# Altium footprint library PcbLib2021-2022.PcbLib: 46 footprints (part 2 of 3)
Each footprint in its own frame and in the unit in brackets; x right, y up, seen from the top. Pads: shape width x height; smd on the part's side, far side on the other; paste and mask are expansions set on the pad; w line width, h text height; cw(c..) or ccw(c..) is an arc to the next point about the centre after c.
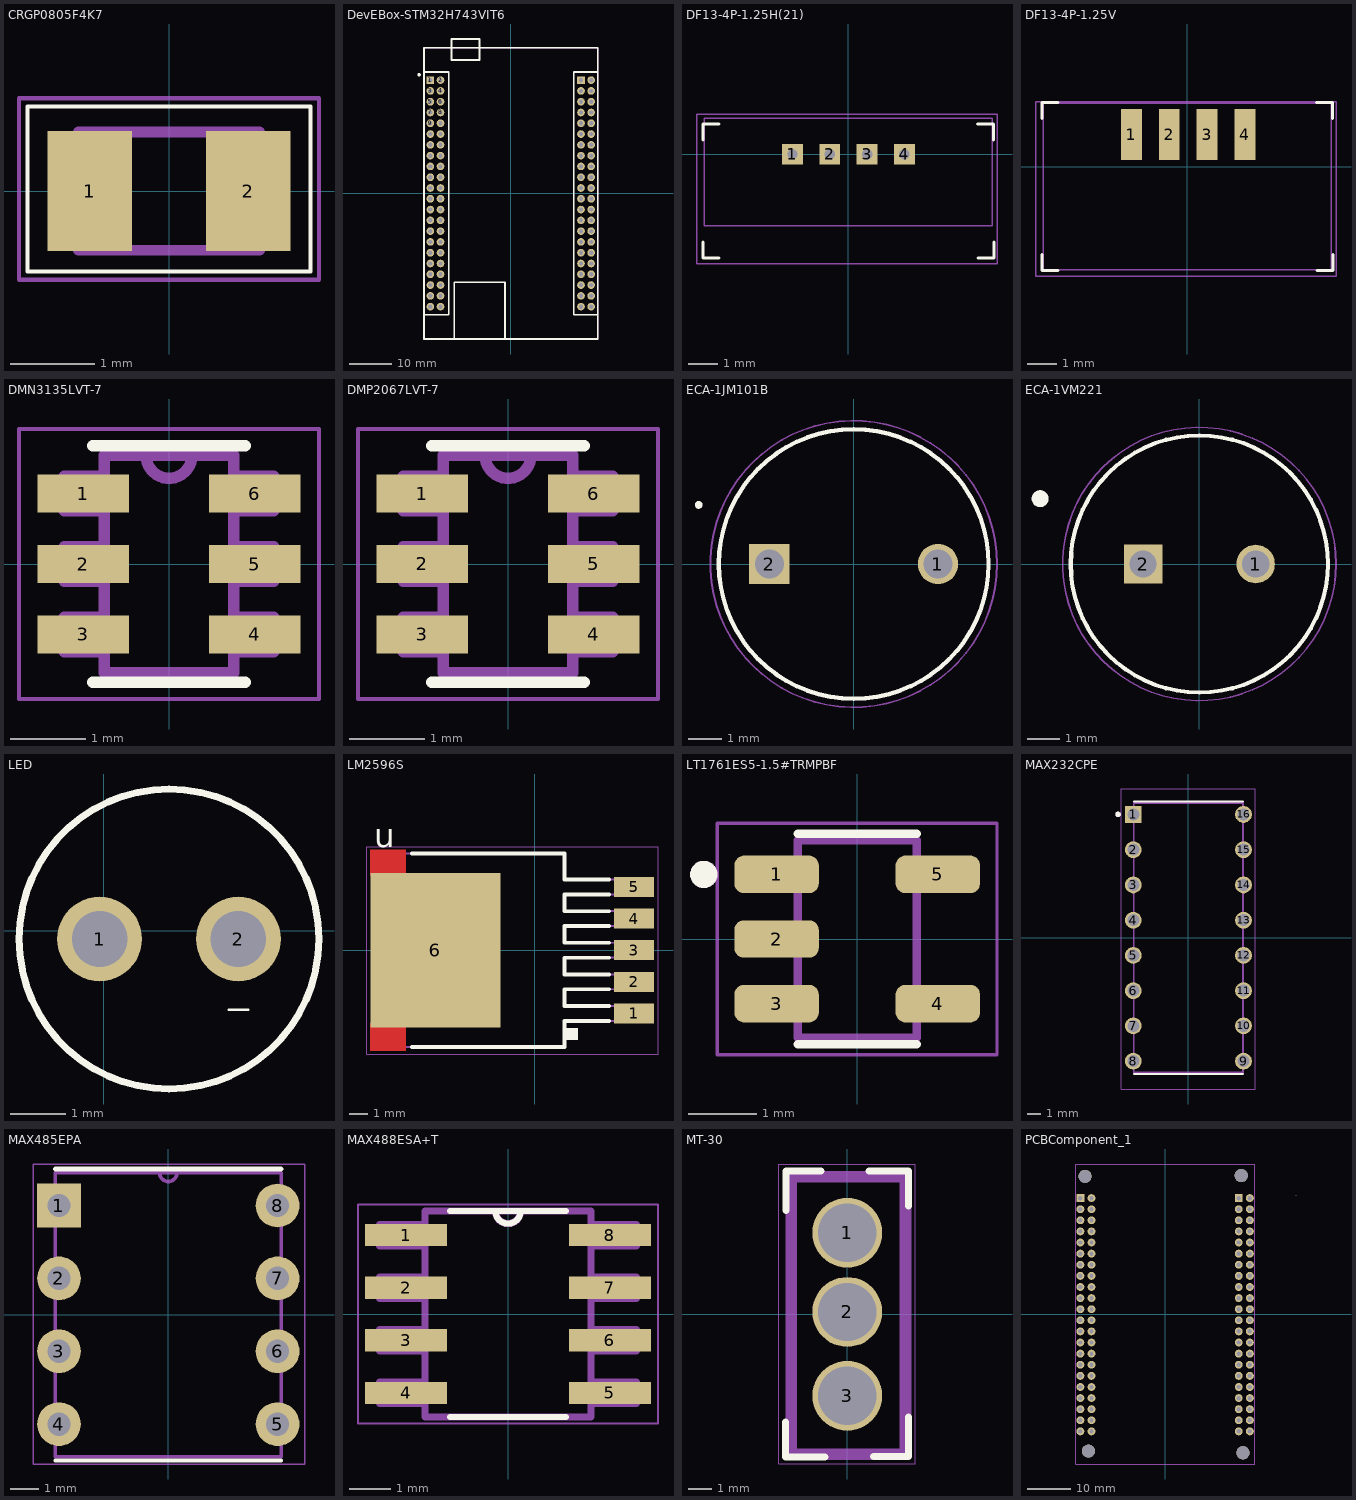
[diagram p1: the footprints below, top view; thin cyan lines are the x and y axes]

## CRGP0805F4K7 [mm]
pads (2):
  rect 1x1.42 smd: 1(-0.935,0) 2(0.935,0)
Top Overlay:
  lines w0.05: -1.675,-0.95 -1.675,1 1.675,1 1.675,-0.95 -1.675,-0.95
M13_3DBody:
  lines w0.127: -1.07,-0.7 -1.07,0.7 1.07,0.7 1.07,-0.7 -1.07,-0.7
M14_TopAssembly:
  text "'.Designator'" at -1.05,-0.514 h1.52
M15_TopCoutyard:
  lines w0.05: -1.775,-1.05 -1.775,1.1 1.775,1.1 1.775,-1.05 -1.775,-1.05
3D body "CRGP0805F4K7.STEP": height 0.65, standoff 0, extent -1,-0.625 1,0.625

## DevEBox-STM32H743VIT6 [mm]
pads (88):
  rect 1.8x1.8 hole 1: 1(-18.96,26.67) 45(16.51,26.67)
  round 1.8 hole 1: 2(-16.56,26.67) 3(-18.96,24.13) 4(-16.56,24.13) 5(-18.96,21.59) 6(-16.56,21.59) 7(-18.96,19.05) 8(-16.56,19.05) 9(-18.96,16.51) 10(-16.56,16.51) 11(-18.96,13.97) 12(-16.56,13.97) 13(-18.96,11.43) 14(-16.56,11.43) 15(-18.96,8.89) 16(-16.56,8.89) 17(-18.96,6.35) 18(-16.56,6.35) 19(-18.96,3.81) 20(-16.56,3.81) 21(-18.96,1.27) 22(-16.56,1.27) 23(-18.96,-1.27) 24(-16.56,-1.27) 25(-18.96,-3.81) 26(-16.56,-3.81) 27(-18.96,-6.35) 28(-16.56,-6.35) 29(-18.96,-8.89) 30(-16.56,-8.89) 31(-18.96,-11.43) 32(-16.56,-11.43) 33(-18.96,-13.97) 34(-16.56,-13.97) 35(-18.96,-16.51) 36(-16.56,-16.51) 37(-18.96,-19.05) 38(-16.56,-19.05) 39(-18.96,-21.59) 40(-16.56,-21.59) 41(-18.96,-24.13) 42(-16.56,-24.13) 43(-18.96,-26.67) 44(-16.56,-26.67) 46(18.91,26.67) 47(16.51,24.13) 48(18.91,24.13) 49(16.51,21.59) 50(18.91,21.59) 51(16.51,19.05) 52(18.91,19.05) 53(16.51,16.51) 54(18.91,16.51) 55(16.51,13.97) 56(18.91,13.97) 57(16.51,11.43) 58(18.91,11.43) 59(16.51,8.89) 60(18.91,8.89) 61(16.51,6.35) 62(18.91,6.35) 63(16.51,3.81) 64(18.91,3.81) 65(16.51,1.27) 66(18.91,1.27) 67(16.51,-1.27) 68(18.91,-1.27) 69(16.51,-3.81) 70(18.91,-3.81) 71(16.51,-6.35) 72(18.91,-6.35) 73(16.51,-8.89) 74(18.91,-8.89) 75(16.51,-11.43) 76(18.91,-11.43) 77(16.51,-13.97) 78(18.91,-13.97) 79(16.51,-16.51) 80(18.91,-16.51) 81(16.51,-19.05) 82(18.91,-19.05) 83(16.51,-21.59) 84(18.91,-21.59) 85(16.51,-24.13) 86(18.91,-24.13) 87(16.51,-26.67) 88(18.91,-26.67)
Top Overlay:
  circle w0.4: c-21.59,27.94 r0.2
  lines w0.4: -20.32,-28.6 -14.605,-28.6 -14.605,28.575 -20.32,28.575 ; -13.333,-34.29 -1.395,-34.29 ; -13.333,-34.266 -13.333,-20.931 -1.395,-20.931 -1.395,-34.266 ; 20.35,28.575 14.787,28.575 14.787,-28.6 20.375,-28.6 ; -20.445,-34.29 -20.445,34.29 20.445,34.29 20.445,-34.29 -20.445,-34.29 ; -13.968,31.403 -7.364,31.403 -7.364,36.356 -13.968,36.356 -13.968,31.403
M14_TopAssembly:
  lines w0.4: -20.445,-34.29 20.445,-34.29 20.445,34.29 -20.445,34.29 -20.445,-34.29
  text "'.Designator'" at -13.26,-6.771 h20

## DF13-4P-1.25H(21) [mm]
pads (4):
  rect 0.7x0.7 hole 0.35 square: 1(-1.875,0) 2(-0.625,0) 3(0.625,0) 4(1.875,0)
Top Overlay:
  lines w0.1: -4.877,-2.946 -4.877,-3.48 -4.343,-3.48 ; -4.877,0.483 -4.877,1.016 -4.343,1.016 ; 4.331,1.016 4.864,1.016 4.864,0.483 ; 4.343,-3.48 4.877,-3.48 4.877,-2.946
M14_TopAssembly:
  lines w0.05: -4.825,-2.4 -4.825,1.2 4.825,1.2 4.825,-2.4 -4.825,-2.4
  text "'.Designator'" at -2.108,-1.062 h3
M15_TopCoutyard:
  lines w0.05: -5.075,-3.675 -5.075,1.346 4.978,1.346 4.978,-3.675 -5.075,-3.675
3D body "DF13-4P-1.25H.STEP": height 5.02, standoff -1.48, extent -4.825,-3.425 4.825,0.975

## DF13-4P-1.25V [mm]
pads (4):
  rect 0.7x1.7 smd: 1(-1.875,1.075) 2(-0.608,1.075) 3(0.658,1.075) 4(1.925,1.075)
Top Overlay:
  lines w0.1: -4.877,-2.946 -4.877,-3.48 -4.343,-3.48 ; -4.877,1.608 -4.877,2.141 -4.343,2.141 ; 4.331,2.141 4.864,2.141 4.864,1.608 ; 4.343,-3.48 4.877,-3.48 4.877,-2.946
M14_TopAssembly:
  lines w0.05: -4.825,-3.45 -4.825,2.125 4.825,2.125 4.825,-3.45 -4.825,-3.45
  text "'.Designator'" at -2.108,-1.062 h3
M15_TopCoutyard:
  lines w0.05: -5.075,-3.675 -5.075,2.175 4.978,2.175 4.978,-3.675 -5.075,-3.675
3D body "DF13-4P-1.25V--3DModel-STEP-1.STEP": height 4.81, standoff -0.79, extent -4.8,-3.175 4.85,1.725

## DMN3135LVT-7 [mil] "NMOS"
pads (6):
  rect 48x20 smd: 1(-45,37) 2(-45,0) 3(-45,-37) 4(45,-37) 5(45,0) 6(45,37)
Top Overlay:
  lines w6: -40,-62 40,-62 ; -40,62 40,62
M13_3DBody:
  lines w6: -12,57 ccw(c0,57) 12,57 ; -12,57 -34,57 -34,-57 34,-57 34,57 12,57 ; -12,57 12,57 ; -55,-46 -34,-46 -34,-28 -55,-28 -55,-46 ; -55,-9 -34,-9 -34,9 -55,9 -55,-9 ; -55,28 -34,28 -34,46 -55,46 -55,28 ; 34,-46 55,-46 55,-28 34,-28 34,-46 ; 34,-9 55,-9 55,9 34,9 34,-9 ; 34,28 55,28 55,46 34,46 34,28
M14_TopAssembly:
  text "'.Designator'" at -55.12,-23.59 h78.74
M15_TopCoutyard:
  lines w1.97: -78.74,-70.87 78.74,-70.87 78.74,70.87 -78.74,70.87 -78.74,-70.87
3D body "LTC1779ES6#TRM.STEP": height 57.09, standoff 0, extent -55.11,-57.08 55.12,57.09

## DMP2067LVT-7 [mil]
pads (6):
  rect 48x20 smd: 1(-45,37) 2(-45,0) 3(-45,-37) 4(45,-37) 5(45,0) 6(45,37)
Top Overlay:
  lines w6: -40,-62 40,-62 ; -40,62 40,62
M13_3DBody:
  lines w6: -12,57 ccw(c0,57) 12,57 ; -12,57 12,57 ; -12,57 -34,57 -34,-57 34,-57 34,57 12,57 ; -55,-46 -55,-28 -34,-28 -34,-46 -55,-46 ; -55,-9 -55,9 -34,9 -34,-9 -55,-9 ; -55,28 -55,46 -34,46 -34,28 -55,28 ; 34,-46 34,-28 55,-28 55,-46 34,-46 ; 34,-9 34,9 55,9 55,-9 34,-9 ; 34,28 34,46 55,46 55,28 34,28
M14_TopAssembly:
  text "'.Designator'" at -55.12,-23.59 h78.74
M15_TopCoutyard:
  lines w1.97: -78.74,-70.87 -78.74,70.87 78.74,70.87 78.74,-70.87 -78.74,-70.87
3D body "LTC1779ES6#TRM.STEP": height 57.09, standoff 0, extent -55.11,-57.08 55.12,57.09

## ECA-1JM101B [mm]
pads (2):
  round 1.2 hole 0.85: 1(2.5,0)
  rect 1.2x1.2 hole 0.85: 2(-2.5,0)
Top Overlay:
  circle w0.127: c0,0 r4
  circle w0.127: c-4.597,1.753 r0.051
M14_TopAssembly:
  text ".Designator" at -1.422,-0.884 h3
M15_TopCoutyard:
  circle w0.05: c0,0 r4.25
3D body "ECA-1JM101B.STEP": height 11.5, standoff -17, extent -3.962,-4.025 4.038,3.975

## ECA-1VM221 [mm]
pads (2):
  round 1.2 hole 0.85: 1(1.75,0)
  rect 1.2x1.2 hole 0.85: 2(-1.75,0)
Top Overlay:
  circle w0.27: c-4.953,2.032 r0.127
  circle w0.127: c0,0 r4
M14_TopAssembly:
  text ".Designator" at -1.499,-0.986 h3
M15_TopCoutyard:
  circle w0.05: c0,0 r4.25
3D body "step_temp.STEP": height 11.5, standoff -17, extent -4.063,-4.063 3.937,3.937

## LED [mm]
pads (2):
  round 1.524 hole 1: 1(-0.075,-0.15) 2(2.425,-0.15)
Top Overlay:
  circle w0.127: c1.175,-0.15 r2.7
  lines w0.05: 2.25,-1.425 2.6,-1.425
3D body "everlight-3MM-LED-YELLOW.step": height 5.64, standoff -6.93, extent -0.725,-2.075 2.701,1.725

## LM2596S [mm]
pads (6):
  rect 2.16x1.07 smd paste-0.102 mask+0.051: 1(5.338,-3.4) 2(5.338,-1.7) 3(5.338,0.005) 4(5.338,1.7) 5(5.338,3.4)
  rect 6.99x8.33 smd paste-0.102 mask+0.051: 6(-5.338,0)
Top Layer:
  region: -8.832,5.4 -8.832,4 -6.923,4 -6.923,5.4
  region: -8.832,-3.9 -8.832,-5.4 -6.923,-5.4 -6.923,-3.9
Top Overlay:
  region: 1.6,-4.2 1.6,-4.8 2.3,-4.8 2.3,-4.2
  lines w0.2: -6.6,-5.2 1.6,-5.2 1.6,-3.8 4,-3.8 ; -6.6,5.2 1.6,5.2 1.6,3.8 4,3.8 ; 4,-3 1.6,-3 1.6,-2.1 4,-2.1 ; 4,-1.3 1.6,-1.3 1.6,-0.4 4,-0.4 ; 4,0.4 1.6,0.4 1.6,1.3 4,1.3 ; 4,2.1 1.6,2.1 1.6,3 4,3
  text "u" at -8.636,5.537 h1.27
Top Paste:
  region: -8.731,5.298 -8.731,4.102 -7.024,4.102 -7.024,5.298
  region: -8.731,-4.002 -8.731,-5.298 -7.024,-5.298 -7.024,-4.002
Top Solder:
  region: -8.883,5.451 -8.883,3.949 -6.872,3.949 -6.872,5.451
  region: -8.883,-3.849 -8.883,-5.451 -6.872,-5.451 -6.872,-3.849
M13_3DBody:
  lines w0.1: -8.3,-3.3 -8.3,3.6 -7.9,5.2 1.6,5.2 1.6,3.8 6,3.8 6,3 1.6,3 1.6,2.1 6,2.1 6,1.3 1.6,1.3 1.6,0.4 6,0.4 6,-0.4 1.6,-0.4 1.6,-1.3 6,-1.3 6,-2.1 1.6,-2.1 1.6,-3 6,-3 6,-3.8 1.6,-3.8 1.6,-5.2 -7.9,-5.2 -8.3,-3.3
M14_TopAssembly:
  text "'.Designator'" at -2.7,-1.125 h4
M15_TopCoutyard:
  lines w0.05: -9.025,-5.6 6.625,-5.6 6.625,5.575 -9.025,5.575 -9.025,-5.6
3D body "LM2596S-5.0--3DModel-STEP-56544.STEP": height 4.65, standoff -0.15, extent -8.375,-5.08 5.976,5.08

## LT1761ES5-1.5#TRMPBF [mm]
pads (5):
  rrect50% 1.24x0.55 smd: 1(-1.185,0.95) 2(-1.185,0) 3(-1.185,-0.95) 4(1.185,-0.95) 5(1.185,0.95)
Top Overlay:
  circle w0.2: c-2.255,0.95 r0.1
  lines w0.127: -0.875,-1.545 0.875,-1.545 ; -0.875,1.545 0.875,1.545
M13_3DBody:
  circle w0.2: c-2.255,0.95 r0.1
  lines w0.127: -0.875,-1.45 -0.875,1.45 0.875,1.45 0.875,-1.45 -0.875,-1.45
M14_TopAssembly:
  text "'.Designator'" at -1,-0.489 h1.52
M15_TopCoutyard:
  lines w0.05: -2.055,-1.7 -2.055,1.7 2.055,1.7 2.055,-1.7 -2.055,-1.7
3D body "LT1761ES5-1.5.STEP": height 1.01, standoff 0.01, extent -1.4,-1.425 1.4,1.475

## MAX232CPE [mm]
pads (16):
  rect 1.21x1.21 hole 0.86: 1(-3.97,8.89)
  round 1.21 hole 0.86: 2(-3.97,6.35) 3(-3.97,3.81) 4(-3.97,1.27) 5(-3.97,-1.27) 6(-3.97,-3.81) 7(-3.97,-6.35) 8(-3.97,-8.89) 9(3.97,-8.89) 10(3.97,-6.35) 11(3.97,-3.81) 12(3.97,-1.27) 13(3.97,1.27) 14(3.97,3.81) 15(3.97,6.35) 16(3.97,8.89)
Top Overlay:
  circle w0.2: c-5.075,8.89 r0.1
  lines w0.127: -3.935,-9.817 3.935,-9.817 ; -3.935,9.817 3.935,9.817
M13_3DBody:
  circle w0.2: c-5.075,8.89 r0.1
  lines w0.127: -3.935,-9.715 -3.935,9.715 3.935,9.715 3.935,-9.715 -3.935,-9.715
M14_TopAssembly:
  text "'.Designator'" at -2.8,-1.173 h4
M15_TopCoutyard:
  lines w0.05: -4.825,-10.9 -4.825,10.725 4.825,10.725 4.825,-10.9 -4.825,-10.9
3D body "MAX232CPE.STEP": height 5.13, standoff -3.25, extent -4.655,-10.743 4.655,10.593

## MAX485EPA [mil]
pads (8):
  rect 60x60 hole 32: 1(-150,150)
  round 60 hole 32: 2(-150,50) 3(-150,-50) 4(-150,-150) 5(150,-150) 6(150,-50) 7(150,50) 8(150,150)
Top Overlay:
  lines w5: -155,-200 155,-200
  lines w6.69: -155,200 155,200
M14_TopAssembly:
  lines w5: -12,195 ccw(c0,195) 12,195 ; -155,-195 -155,195 155,195 155,-195 -155,-195
  text ".Designator" at -56,-33.81 h118.11
M15_TopCoutyard:
  lines w1.97: -185.04,-204.72 -185.04,206.69 -155.51,206.69 187.01,206.69 187.01,-204.72 -185.04,-204.72
3D body "MAX485EPA.STEP": height 180, standoff -150, extent -199.99,-183.55 200.01,185.55

## MAX488ESA+T [mil]
pads (8):
  rect 78x21 smd: 1(-97,75) 2(-97,25) 3(-97,-25) 4(-97,-75) 5(97,-75) 6(97,-25) 7(97,25) 8(97,75)
Top Overlay:
  lines w6: -55,-98 55,-98 ; -55,98 -12,98 ; 55,98 12,98 ; -12,98 ccw(c0,98) 12,98 ; -12,98 12,98
M14_TopAssembly:
  lines w6.85: -12,98 ccw(c0,98) 12,98 ; -12,98 -79,98 -79,-98 79,-98 79,98 12,98 ; -12,98 12,98 ; -122,-85 -79,-85 -79,-65 -122,-65 -122,-85 ; -122,-35 -122,-15 -79,-15 -79,-35 -122,-35 ; -122,15 -79,15 -79,35 -122,35 -122,15 ; -122,65 -79,65 -79,85 -122,85 -122,65 ; 79,-85 79,-65 122,-65 122,-85 79,-85 ; 79,-35 122,-35 122,-15 79,-15 79,-35 ; 79,15 122,15 122,35 79,35 79,15 ; 79,65 122,65 122,85 79,85 79,65
  text "'.Designator'" at -79,-42.81 h118.11
M15_TopCoutyard:
  lines w1.97: -142.72,-104.33 142.72,-104.33 142.72,104.33 -142.72,104.33 -142.72,-104.33
3D body "MAX488ESA+T.STEP": height 68.9, standoff 0, extent -118.11,-95.47 118.11,97.44

## MT-30 [mm]
pads (3):
  round 3 hole 2.5: 1(0,3.5) 2(0,0.1) 3(0,-3.5)
Top Overlay:
  lines w0.3: -2.65,-4.625 -2.65,-6.125 -0.95,-6.125 ; -2.625,4.45 -2.625,6.15 -1.125,6.15 ; 0.925,6.15 2.625,6.15 2.625,4.65 ; 1.125,-6.1 2.625,-6.1 2.625,-4.4
M14_TopAssembly:
  lines w0.5: -2.4,-6 -2.4,5.9 2.5,5.9 2.5,-6 -2.4,-6
  text "'.Designator'" at -2.7,-1.148 h4
M15_TopCoutyard:
  lines w0.05: -2.95,-6.425 2.925,-6.425 2.925,6.45 -2.95,6.45 -2.95,-6.425
3D body "User Library-Amass MR30-M.STEP": height 11.2, standoff -2.3, extent -2.55,-5.95 2.55,6.15

## PCBComponent_1 [mm]
pads (92):
  rect 1.8x1.8 hole 1: CN11_1(-19.375,26.5) CN11_1(16.835,26.5)
  round 1.8 hole 1: CN11_2(-16.835,26.5) CN11_2(19.375,26.5) CN11_3(-19.375,23.96) CN11_3(16.835,23.96) CN11_4(-16.835,23.96) CN11_4(19.375,23.96) CN11_5(-19.375,21.42) CN11_5(16.835,21.42) CN11_6(-16.835,21.42) CN11_6(19.375,21.42) CN11_7(-19.375,18.88) CN11_7(16.835,18.88) CN11_8(-16.835,18.88) CN11_8(19.375,18.88) CN11_9(-19.375,16.34) CN11_9(16.835,16.34) CN11_10(-16.835,16.34) CN11_10(19.375,16.34) CN11_11(-19.375,13.8) CN11_11(16.835,13.8) CN11_12(-16.835,13.8) CN11_12(19.375,13.8) CN11_13(-19.375,11.26) CN11_13(16.835,11.26) CN11_14(-16.835,11.26) CN11_14(19.375,11.26) CN11_15(-19.375,8.72) CN11_15(16.835,8.72) CN11_16(-16.835,8.72) CN11_16(19.375,8.72) CN11_17(-19.375,6.18) CN11_17(16.835,6.18) CN11_18(-16.835,6.18) CN11_18(19.375,6.18) CN11_19(-19.375,3.64) CN11_19(16.835,3.64) CN11_20(-16.835,3.64) CN11_20(19.375,3.64) CN11_21(-19.375,1.1) CN11_21(16.835,1.1) CN11_22(-16.835,1.1) CN11_22(19.375,1.1) CN11_23(-19.375,-1.44) CN11_23(16.835,-1.44) CN11_24(-16.835,-1.44) CN11_24(19.375,-1.44) CN11_25(-19.375,-3.98) CN11_25(16.835,-3.98) CN11_26(-16.835,-3.98) CN11_26(19.375,-3.98) CN11_27(-19.375,-6.52) CN11_27(16.835,-6.52) CN11_28(-16.835,-6.52) CN11_28(19.375,-6.52) CN11_29(-19.375,-9.06) CN11_29(16.835,-9.06) CN11_30(-16.835,-9.06) CN11_30(19.375,-9.06) CN11_31(-19.375,-11.6) CN11_31(16.835,-11.6) CN11_32(-16.835,-11.6) CN11_32(19.375,-11.6) CN11_33(-19.375,-14.14) CN11_33(16.835,-14.14) CN11_34(-16.835,-14.14) CN11_34(19.375,-14.14) CN11_35(-19.375,-16.68) CN11_35(16.835,-16.68) CN11_36(-16.835,-16.68) CN11_36(19.375,-16.68) CN11_37(-19.375,-19.22) CN11_37(16.835,-19.22) CN11_38(-16.835,-19.22) CN11_38(19.375,-19.22) CN11_39(-19.375,-21.76) CN11_39(16.835,-21.76) CN11_40(-16.835,-21.76) CN11_40(19.375,-21.76) CN11_41(-19.375,-24.3) CN11_41(16.835,-24.3) CN11_42(-16.835,-24.3) CN11_42(19.375,-24.3) CN11_43(-19.375,-26.84) CN11_43(16.835,-26.84) CN11_44(-16.835,-26.84) CN11_44(19.375,-26.84)
  round 3 hole 3 unplated: None(-18.3,31.475) None(-17.525,-31.35) None(17.4,31.65) None(17.8,-31.725)
M14_TopAssembly:
  lines w0.05: 29.9,27.175 30,27.175
  lines w0.1: -20.445,-34.295 20.445,-34.295 20.445,34.295 -20.445,34.295 -20.445,-34.295